# Altium schematic symbol library Numonyx.SchLib: 1 symbol
Pins are listed as number, name and electrical type; pins without a type are passive.

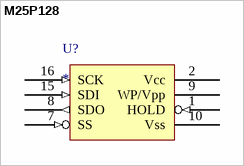
[diagram p0: symbol M25P128]

## M25P128
designator U?
footprint SOIC127P1030-16M (SOIC, 16-Leads, Body 10.3x7.5mm, Pitch 1.27mm, IPC Low Density)
pins: 1 HOLD (in), 2 Vcc (power), 7 SS (in), 8 SDO (out), 9 WP/Vpp (power), 10 Vss (power), 15 SDI (in), 16 SCK (in)